# Altium schematic symbol library 284513-3.SchLib: 1 symbol
Pins are listed as number, name and electrical type; pins without a type are passive.

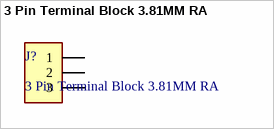
[diagram p0: symbol 3 Pin Terminal Block 3.81MM RA]

## 3 Pin Terminal Block 3.81MM RA
designator J?
3 Pin Terminal Block HDR 3.81MM THT RA 284513-3; MF: TE Connectivity; Purchase-URL: https://pricing.snapeda.com/search/part/284513-3/?ref=eda; Package: None; MP: 284513-3; EU_RoHS_Compliance: Compliant; Price: None; Availability: In Stock; Value: *; Check_prices: https://www.snapeda.com/parts/284513-3/TE+Connectivity+AMP+Connectors/view-part/?ref=eda; SnapEDA_Link: https://www.snapeda.com/parts/284513-3/TE+Connectivity+AMP+Connectors/view-part/?ref=snap
footprint TE_284513-3
pins: 1, 2, 3